# EAGLE library part USB-MICROB-SMT (library freddyLibr)
USB micro B receptacle. 5 pin surface mount variant.
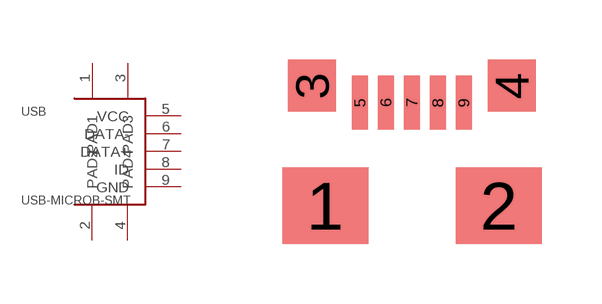
[diagram p0: symbol with the pads of USB-MICROB-SMT; footprint USB-MICROB-SMT]

Designator prefix USB

## USB-MICROB-SMT5-PIN  [USB-MICROB-SMT]
1  PAD1  nc
2  PAD2  nc
3  PAD3  nc
4  PAD4  nc
5  VCC
6  DATA-
7  DATA+
8  ID
9  GND

## Footprint USB-MICROB-SMT (pad centres in mm)
smd 2.15 x 1.9: 1 -2.17,-0.95; 2 2.17,-0.95
smd 1.2 x 1.3: 3 -2.5,2.05; 4 2.5,2.05
smd 0.4 x 1.35: 5 -1.3,1.63; 6 -0.65,1.63; 7 0,1.63; 8 0.65,1.63; 9 1.3,1.63